# Altium schematic symbol library IC_GA1A2S100LY.SchLib: 1 symbol
Pins are listed as number, name and electrical type; pins without a type are passive.

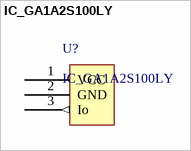
[diagram p0: symbol IC_GA1A2S100LY]

## IC_GA1A2S100LY
designator U?
Ambient light sensor
pins: 1 VCC (power), 2 GND (power), 3 Io (out)
1 alternate drawing of the same symbol